# Altium integrated library TI Power Management Step-Up Regulator.IntLib: 226 symbols (part 5 of 11)
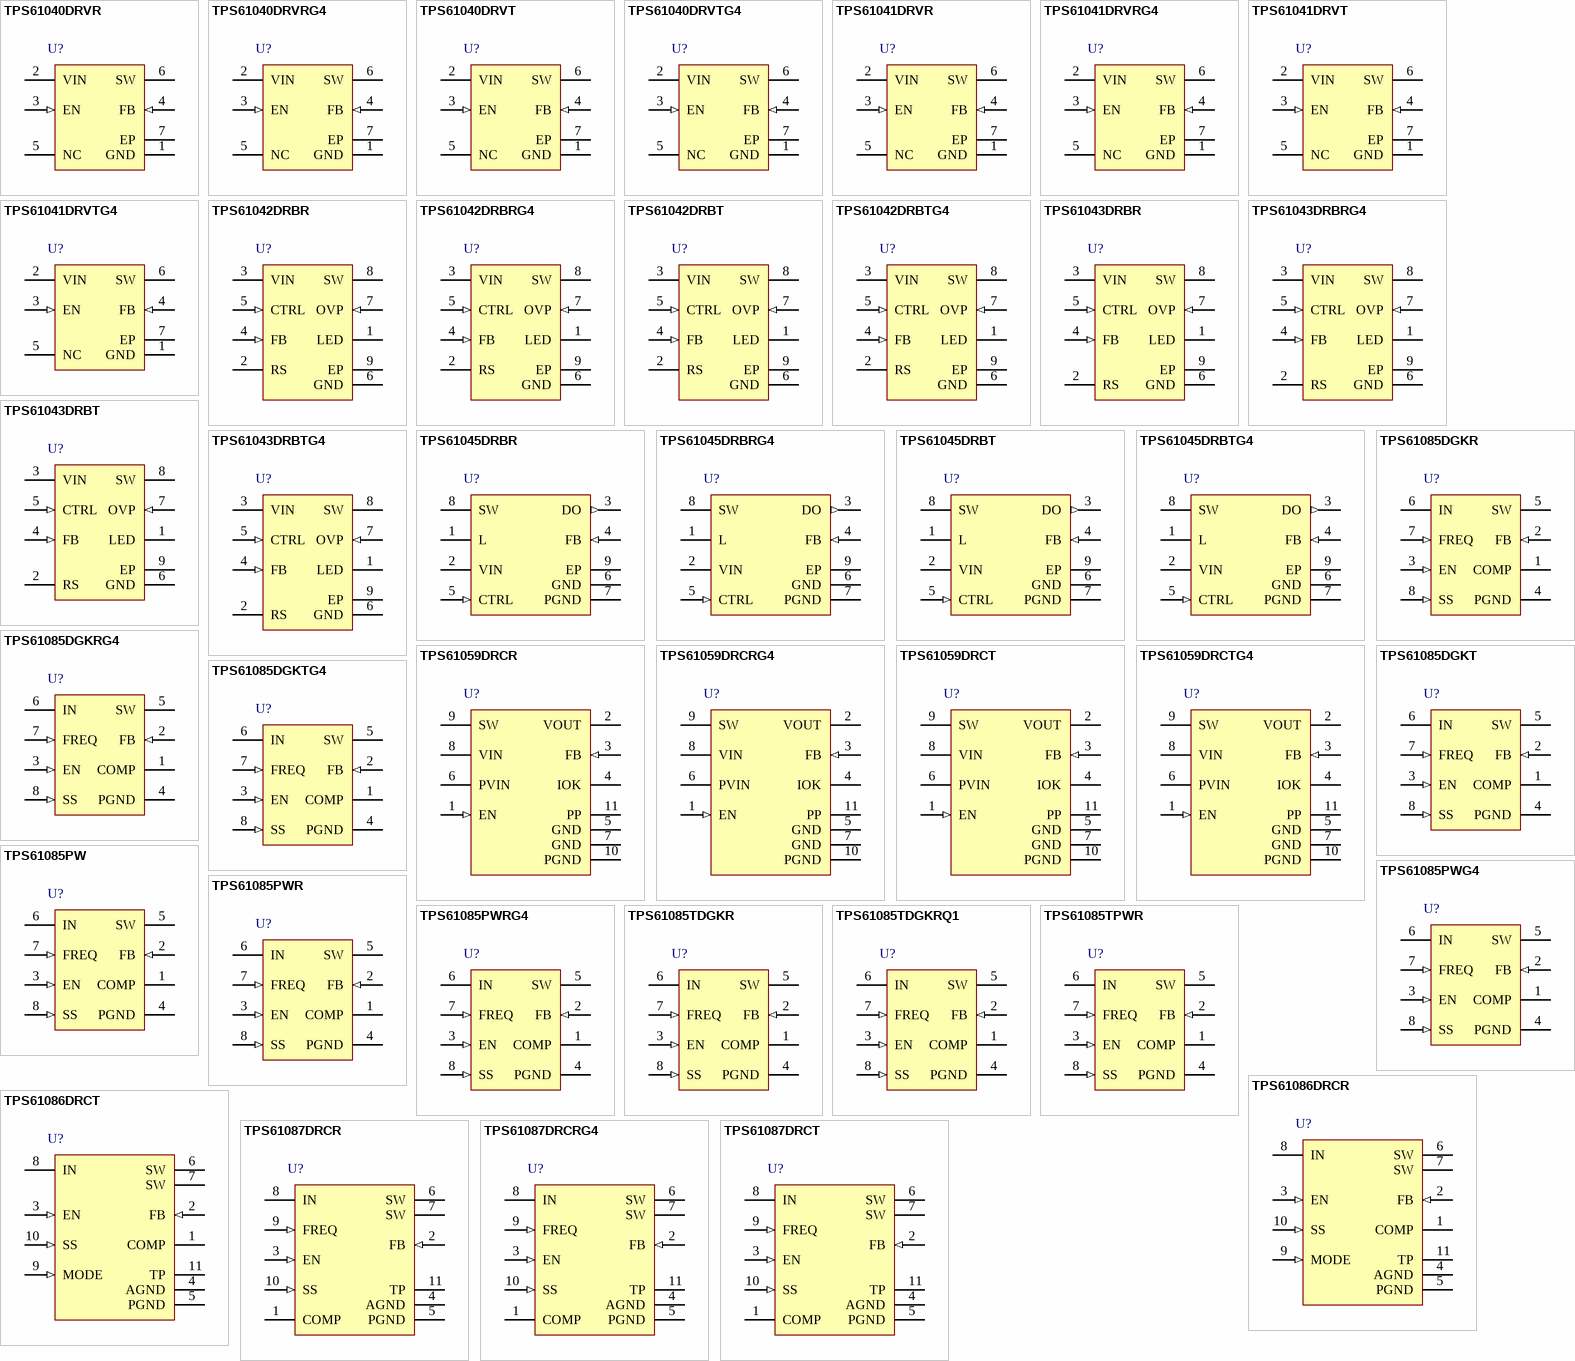
[diagram p10: symbols TPS61040DRVR to TPS61087DRCT]

## TPS61042DRBR
designator U?
Boost Voltage Converter with 1.8 to 6 V Input and 1.8 to 28 V Output, -40 to 85 degC, 8-Pin SON (DRB), Green (RoHS & no Sb/Br); Manufacturer: Texas Instruments; PartNumber: TPS61042DRBR; Regulated Outputs(#): 1; SubFamily: Step-Up Regulator; Switching Frequency(Max)(kHz): 1000; Vin(Max)(V): 6; Vin(Min)(V): 1.8; Vout(Max)(V): 28; DatasheetVersion: SLVS441C; PackageVersion: revI, Sep-2010; PackageReference: DRB8-1750X1500TP; PackageDescription: 8-Pin Plastic Small Outline No-Lead, 3 x 3 x 1 mm Body, 0.65 mm Pitch, Exposed Pad; Supplier 1: Digi-Key; Supplier Part Number 1: 296-14449-2-ND; Supplier 2: Digi-Key; Supplier Part Number 2: 296-14449-1-ND; Supplier 3: Digi-Key; Supplier Part Number 3: 296-14449-6-ND; Supplier 4: Newark; Supplier Part Number 4: 80K6166; Supplier 5: Mouser; Supplier Part Number 5: 595-TPS61042DRBR; Eco-Plan: Green (RoHS & no Sb/Br); Topology: Boost; Vout(Min)(V): 1.8; Mounting Technology: Surface Mount; ComponentLink1Description: Datasheet; ComponentLink1URL: http://www.ti.com/general/docs/lit/getliterature.tsp?genericPartNumber=TPS61042&fileType=pdf; ComponentLink2Description: Package Specification; ComponentLink2URL: http://www.ti.com/lit/ml/mpds118j/mpds118j.pdf
footprint DRB8-1750X1500TP (SON, 8-Leads, Body 3x3mm, Pitch 0.65mm, Thermal Pad 1.75x1.5mm, TI Recommended)
pins: 1 LED "Input of the LED switch (Q2). Connect the LEDs to this pin.", 2 RS "Output of the internal LED switch. The sense resistor that programs the LED current is connected to RS.", 3 VIN (power) "Input supply pin.", 4 FB (in) "Feedback. FB regulates the LED current through the sense resistor by regulating the voltage across RS to 252mV.", 5 CTRL (in) "Combined enable and PWM control pin. If CTRL is constantly pulled high, the device is enabled and the internal LED switch (Q2) is constantly turned on. When CTRL is pulled to GND, the device is disabled. Apply a PWM signal (See Datasheet)", 6 GND (power), 7 OVP (in) "Overvoltage protection. OVP is connected to the output capacitor of the converter", 8 SW (power) "Drain of the integrated switch (Q1)", 9 EP (power) "Exposed Thermal Pad"

## TPS61042DRBRG4
designator U?
Boost Voltage Converter with 1.8 to 6 V Input and 1.8 to 28 V Output, -40 to 85 degC, 8-Pin SON (DRB), Green (RoHS & no Sb/Br); Manufacturer: Texas Instruments; PartNumber: TPS61042DRBRG4; Regulated Outputs(#): 1; SubFamily: Step-Up Regulator; Switching Frequency(Max)(kHz): 1000; Vin(Max)(V): 6; Vin(Min)(V): 1.8; Vout(Max)(V): 28; DatasheetVersion: SLVS441C; PackageVersion: revI, Sep-2010; PackageReference: DRB8-1750X1500TP; PackageDescription: 8-Pin Plastic Small Outline No-Lead, 3 x 3 x 1 mm Body, 0.65 mm Pitch, Exposed Pad; Supplier 1: Digi-Key; Supplier Part Number 1: TPS61042DRBRG4-ND; Supplier 2: Farnell; Supplier Part Number 2: 1287686; Supplier 3: Newark; Supplier Part Number 3: 99K4411; Supplier 4: Mouser; Supplier Part Number 4: 595-TPS61042DRBRG4; Eco-Plan: Green (RoHS & no Sb/Br); Topology: Boost; Vout(Min)(V): 1.8; Mounting Technology: Surface Mount; ComponentLink1Description: Datasheet; ComponentLink1URL: http://www.ti.com/general/docs/lit/getliterature.tsp?genericPartNumber=TPS61042&fileType=pdf; ComponentLink2Description: Package Specification; ComponentLink2URL: http://www.ti.com/lit/ml/mpds118j/mpds118j.pdf
footprint DRB8-1750X1500TP (SON, 8-Leads, Body 3x3mm, Pitch 0.65mm, Thermal Pad 1.75x1.5mm, TI Recommended)
pins: 1 LED "Input of the LED switch (Q2). Connect the LEDs to this pin.", 2 RS "Output of the internal LED switch. The sense resistor that programs the LED current is connected to RS.", 3 VIN (power) "Input supply pin.", 4 FB (in) "Feedback. FB regulates the LED current through the sense resistor by regulating the voltage across RS to 252mV.", 5 CTRL (in) "Combined enable and PWM control pin. If CTRL is constantly pulled high, the device is enabled and the internal LED switch (Q2) is constantly turned on. When CTRL is pulled to GND, the device is disabled. Apply a PWM signal (See Datasheet)", 6 GND (power), 7 OVP (in) "Overvoltage protection. OVP is connected to the output capacitor of the converter", 8 SW (power) "Drain of the integrated switch (Q1)", 9 EP (power) "Exposed Thermal Pad"

## TPS61042DRBT
designator U?
Boost Voltage Converter with 1.8 to 6 V Input and 1.8 to 28 V Output, 8-Pin SON (DRB), Green (RoHS & no Sb/Br); Manufacturer: Texas Instruments; PartNumber: TPS61042DRBT; Regulated Outputs(#): 1; SubFamily: Step-Up Regulator; Switching Frequency(Max)(kHz): 1000; Vin(Max)(V): 6; Vin(Min)(V): 1.8; Vout(Max)(V): 28; DatasheetVersion: SLVS441C; PackageVersion: revI, Sep-2010; PackageReference: DRB8-1750X1500TP; PackageDescription: 8-Pin Plastic Small Outline No-Lead, 3 x 3 x 1 mm Body, 0.65 mm Pitch, Exposed Pad; Supplier 1: Digi-Key; Supplier Part Number 1: 296-27008-2-ND; Supplier 2: Digi-Key; Supplier Part Number 2: 296-27008-1-ND; Supplier 3: Digi-Key; Supplier Part Number 3: 296-27008-6-ND; Supplier 4: Newark; Supplier Part Number 4: 32H6569; Supplier 5: Mouser; Supplier Part Number 5: 595-TPS61042DRBT; Eco-Plan: Green (RoHS & no Sb/Br); Topology: Boost; Vout(Min)(V): 1.8; Mounting Technology: Surface Mount; ComponentLink1Description: Datasheet; ComponentLink1URL: http://www.ti.com/general/docs/lit/getliterature.tsp?genericPartNumber=TPS61042&fileType=pdf; ComponentLink2Description: Package Specification; ComponentLink2URL: http://www.ti.com/lit/ml/mpds118j/mpds118j.pdf
footprint DRB8-1750X1500TP (SON, 8-Leads, Body 3x3mm, Pitch 0.65mm, Thermal Pad 1.75x1.5mm, TI Recommended)
pins: 1 LED "Input of the LED switch (Q2). Connect the LEDs to this pin.", 2 RS "Output of the internal LED switch. The sense resistor that programs the LED current is connected to RS.", 3 VIN (power) "Input supply pin.", 4 FB (in) "Feedback. FB regulates the LED current through the sense resistor by regulating the voltage across RS to 252mV.", 5 CTRL (in) "Combined enable and PWM control pin. If CTRL is constantly pulled high, the device is enabled and the internal LED switch (Q2) is constantly turned on. When CTRL is pulled to GND, the device is disabled. Apply a PWM signal (See Datasheet)", 6 GND (power), 7 OVP (in) "Overvoltage protection. OVP is connected to the output capacitor of the converter", 8 SW (power) "Drain of the integrated switch (Q1)", 9 EP (power) "Exposed Thermal Pad"

## TPS61042DRBTG4
designator U?
Boost Voltage Converter with 1.8 to 6 V Input and 1.8 to 28 V Output, 8-Pin SON (DRB), Green (RoHS & no Sb/Br); Manufacturer: Texas Instruments; PartNumber: TPS61042DRBTG4; Regulated Outputs(#): 1; SubFamily: Step-Up Regulator; Switching Frequency(Max)(kHz): 1000; Vin(Max)(V): 6; Vin(Min)(V): 1.8; Vout(Max)(V): 28; DatasheetVersion: SLVS441C; PackageVersion: revI, Sep-2010; PackageReference: DRB8-1750X1500TP; PackageDescription: 8-Pin Plastic Small Outline No-Lead, 3 x 3 x 1 mm Body, 0.65 mm Pitch, Exposed Pad; Supplier 1: Digi-Key; Supplier Part Number 1: TPS61042DRBTG4-ND; Supplier 2: Newark; Supplier Part Number 2: 10M0632; Supplier 3: Mouser; Supplier Part Number 3: 595-TPS61042DRBTG4; Eco-Plan: Green (RoHS & no Sb/Br); Topology: Boost; Vout(Min)(V): 1.8; Mounting Technology: Surface Mount; ComponentLink1Description: Datasheet; ComponentLink1URL: http://www.ti.com/general/docs/lit/getliterature.tsp?genericPartNumber=TPS61042&fileType=pdf; ComponentLink2Description: Package Specification; ComponentLink2URL: http://www.ti.com/lit/ml/mpds118j/mpds118j.pdf
footprint DRB8-1750X1500TP (SON, 8-Leads, Body 3x3mm, Pitch 0.65mm, Thermal Pad 1.75x1.5mm, TI Recommended)
pins: 1 LED "Input of the LED switch (Q2). Connect the LEDs to this pin.", 2 RS "Output of the internal LED switch. The sense resistor that programs the LED current is connected to RS.", 3 VIN (power) "Input supply pin.", 4 FB (in) "Feedback. FB regulates the LED current through the sense resistor by regulating the voltage across RS to 252mV.", 5 CTRL (in) "Combined enable and PWM control pin. If CTRL is constantly pulled high, the device is enabled and the internal LED switch (Q2) is constantly turned on. When CTRL is pulled to GND, the device is disabled. Apply a PWM signal (See Datasheet)", 6 GND (power), 7 OVP (in) "Overvoltage protection. OVP is connected to the output capacitor of the converter", 8 SW (power) "Drain of the integrated switch (Q1)", 9 EP (power) "Exposed Thermal Pad"

## TPS61043DRBR
designator U?
Boost LED Driver with 1.8 to 6 V Input and 1.8 to 16.9 V Output, -40 to 85 degC, 8-Pin SON (DRB), Green (RoHS & no Sb/Br); Manufacturer: Texas Instruments; PartNumber: TPS61043DRBR; Regulated Outputs(#): 1; SubFamily: Step-Up Regulator; Switching Frequency(Max)(kHz): 1000; Vin(Max)(V): 6; Vin(Min)(V): 1.8; Vout(Max)(V): 16.9; DatasheetVersion: SLVS465A; PackageVersion: revI, Sep-2010; PackageReference: DRB8-1750X1500TP; PackageDescription: 8-Pin Plastic Small Outline No-Lead, 3 x 3 x 1 mm Body, 0.65 mm Pitch, Exposed Pad; Supplier 1: Digi-Key; Supplier Part Number 1: 296-16675-2-ND; Supplier 2: Digi-Key; Supplier Part Number 2: 296-16675-1-ND; Supplier 3: Digi-Key; Supplier Part Number 3: 296-16675-6-ND; Supplier 4: Newark; Supplier Part Number 4: 90H4862; Supplier 5: Mouser; Supplier Part Number 5: 595-TPS61043DRBR; Eco-Plan: Green (RoHS & no Sb/Br); Topology: Boost; Vout(Min)(V): 1.8; Mounting Technology: Surface Mount; ComponentLink1Description: Datasheet; ComponentLink1URL: http://www.ti.com/general/docs/lit/getliterature.tsp?genericPartNumber=TPS61043&fileType=pdf; ComponentLink2Description: Package Specification; ComponentLink2URL: http://www.ti.com/lit/ml/mpds118j/mpds118j.pdf
footprint DRB8-1750X1500TP (SON, 8-Leads, Body 3x3mm, Pitch 0.65mm, Thermal Pad 1.75x1.5mm, TI Recommended)
pins: 1 LED "Input of the LED switch (Q2). Connect the LEDs to this pin.", 2 RS "Output of the internal LED switch. The sense resistor that programs the LED current is connected to RS.", 3 VIN (power) "Input supply pin.", 4 FB (in) "Feedback. FB regulates the LED current through the sense resistor by regulating the voltage across RS to 252 mV.", 5 CTRL (in) "Combined enable and PWM control pin. If CTRL is constantly pulled high, the device is enabled and the internal LED switch (Q2) is constantly turned on. When CTRL is pulled to GND, the device is disabled. Apply a PWM signal (See Datasheet)", 6 GND (power), 7 OVP (in) "Overvoltage protection. OVP is connected to the output capacitor of the converter.", 8 SW (power) "Drain of the integrated switch (Q1)", 9 EP (power) "The exposed thermal die pad is connected to GND."

## TPS61043DRBRG4
designator U?
Boost LED Driver with 1.8 to 6 V Input and 1.8 to 16.9 V Output, -40 to 85 degC, 8-Pin SON (DRB), Green (RoHS & no Sb/Br); Manufacturer: Texas Instruments; PartNumber: TPS61043DRBRG4; Regulated Outputs(#): 1; SubFamily: Step-Up Regulator; Switching Frequency(Max)(kHz): 1000; Vin(Max)(V): 6; Vin(Min)(V): 1.8; Vout(Max)(V): 16.9; DatasheetVersion: SLVS465A; PackageVersion: revI, Sep-2010; PackageReference: DRB8-1750X1500TP; PackageDescription: 8-Pin Plastic Small Outline No-Lead, 3 x 3 x 1 mm Body, 0.65 mm Pitch, Exposed Pad; Supplier 1: Digi-Key; Supplier Part Number 1: TPS61043DRBRG4-ND; Supplier 2: Newark; Supplier Part Number 2: 24K6023; Supplier 3: Mouser; Supplier Part Number 3: 595-TPS61043DRBRG4; Eco-Plan: Green (RoHS & no Sb/Br); Topology: Boost; Vout(Min)(V): 1.8; Mounting Technology: Surface Mount; ComponentLink1Description: Datasheet; ComponentLink1URL: http://www.ti.com/general/docs/lit/getliterature.tsp?genericPartNumber=TPS61043&fileType=pdf; ComponentLink2Description: Package Specification; ComponentLink2URL: http://www.ti.com/lit/ml/mpds118j/mpds118j.pdf
footprint DRB8-1750X1500TP (SON, 8-Leads, Body 3x3mm, Pitch 0.65mm, Thermal Pad 1.75x1.5mm, TI Recommended)
pins: 1 LED "Input of the LED switch (Q2). Connect the LEDs to this pin.", 2 RS "Output of the internal LED switch. The sense resistor that programs the LED current is connected to RS.", 3 VIN (power) "Input supply pin.", 4 FB (in) "Feedback. FB regulates the LED current through the sense resistor by regulating the voltage across RS to 252 mV.", 5 CTRL (in) "Combined enable and PWM control pin. If CTRL is constantly pulled high, the device is enabled and the internal LED switch (Q2) is constantly turned on. When CTRL is pulled to GND, the device is disabled. Apply a PWM signal (See Datasheet)", 6 GND (power), 7 OVP (in) "Overvoltage protection. OVP is connected to the output capacitor of the converter.", 8 SW (power) "Drain of the integrated switch (Q1)", 9 EP (power) "The exposed thermal die pad is connected to GND."

## TPS61043DRBT
designator U?
Boost LED Driver with 1.8 to 6 V Input and 1.8 to 16.9 V Output, -40 to 85 degC, 8-Pin SON (DRB), Green (RoHS & no Sb/Br); Manufacturer: Texas Instruments; PartNumber: TPS61043DRBT; Regulated Outputs(#): 1; SubFamily: Step-Up Regulator; Switching Frequency(Max)(kHz): 1000; Vin(Max)(V): 6; Vin(Min)(V): 1.8; Vout(Max)(V): 16.9; DatasheetVersion: SLVS465A; PackageVersion: revI, Sep-2010; PackageReference: DRB8-1750X1500TP; PackageDescription: 8-Pin Plastic Small Outline No-Lead, 3 x 3 x 1 mm Body, 0.65 mm Pitch, Exposed Pad; Supplier 1: Digi-Key; Supplier Part Number 1: 296-27009-2-ND; Supplier 2: Digi-Key; Supplier Part Number 2: 296-27009-1-ND; Supplier 3: Digi-Key; Supplier Part Number 3: 296-27009-6-ND; Supplier 4: Newark; Supplier Part Number 4: 90H4863; Supplier 5: Mouser; Supplier Part Number 5: 595-TPS61043DRBT; Eco-Plan: Green (RoHS & no Sb/Br); Topology: Boost; Vout(Min)(V): 1.8; Mounting Technology: Surface Mount; ComponentLink1Description: Datasheet; ComponentLink1URL: http://www.ti.com/general/docs/lit/getliterature.tsp?genericPartNumber=TPS61043&fileType=pdf; ComponentLink2Description: Package Specification; ComponentLink2URL: http://www.ti.com/lit/ml/mpds118j/mpds118j.pdf
footprint DRB8-1750X1500TP (SON, 8-Leads, Body 3x3mm, Pitch 0.65mm, Thermal Pad 1.75x1.5mm, TI Recommended)
pins: 1 LED "Input of the LED switch (Q2). Connect the LEDs to this pin.", 2 RS "Output of the internal LED switch. The sense resistor that programs the LED current is connected to RS.", 3 VIN (power) "Input supply pin.", 4 FB (in) "Feedback. FB regulates the LED current through the sense resistor by regulating the voltage across RS to 252 mV.", 5 CTRL (in) "Combined enable and PWM control pin. If CTRL is constantly pulled high, the device is enabled and the internal LED switch (Q2) is constantly turned on. When CTRL is pulled to GND, the device is disabled. Apply a PWM signal (See Datasheet)", 6 GND (power), 7 OVP (in) "Overvoltage protection. OVP is connected to the output capacitor of the converter.", 8 SW (power) "Drain of the integrated switch (Q1)", 9 EP (power) "The exposed thermal die pad is connected to GND."

## TPS61043DRBTG4
designator U?
Boost LED Driver with 1.8 to 6 V Input and 1.8 to 16.9 V Output, -40 to 85 degC, 8-Pin SON (DRB), Green (RoHS & no Sb/Br); Manufacturer: Texas Instruments; PartNumber: TPS61043DRBTG4; Regulated Outputs(#): 1; SubFamily: Step-Up Regulator; Switching Frequency(Max)(kHz): 1000; Vin(Max)(V): 6; Vin(Min)(V): 1.8; Vout(Max)(V): 16.9; DatasheetVersion: SLVS465A; PackageVersion: revI, Sep-2010; PackageReference: DRB8-1750X1500TP; PackageDescription: 8-Pin Plastic Small Outline No-Lead, 3 x 3 x 1 mm Body, 0.65 mm Pitch, Exposed Pad; Supplier 1: Digi-Key; Supplier Part Number 1: TPS61043DRBTG4-ND; Supplier 2: Newark; Supplier Part Number 2: 52M6121; Supplier 3: Mouser; Supplier Part Number 3: 595-TPS61043DRBTG4; Eco-Plan: Green (RoHS & no Sb/Br); Topology: Boost; Vout(Min)(V): 1.8; Mounting Technology: Surface Mount; ComponentLink1Description: Datasheet; ComponentLink1URL: http://www.ti.com/general/docs/lit/getliterature.tsp?genericPartNumber=TPS61043&fileType=pdf; ComponentLink2Description: Package Specification; ComponentLink2URL: http://www.ti.com/lit/ml/mpds118j/mpds118j.pdf
footprint DRB8-1750X1500TP (SON, 8-Leads, Body 3x3mm, Pitch 0.65mm, Thermal Pad 1.75x1.5mm, TI Recommended)
pins: 1 LED "Input of the LED switch (Q2). Connect the LEDs to this pin.", 2 RS "Output of the internal LED switch. The sense resistor that programs the LED current is connected to RS.", 3 VIN (power) "Input supply pin.", 4 FB (in) "Feedback. FB regulates the LED current through the sense resistor by regulating the voltage across RS to 252 mV.", 5 CTRL (in) "Combined enable and PWM control pin. If CTRL is constantly pulled high, the device is enabled and the internal LED switch (Q2) is constantly turned on. When CTRL is pulled to GND, the device is disabled. Apply a PWM signal (See Datasheet)", 6 GND (power), 7 OVP (in) "Overvoltage protection. OVP is connected to the output capacitor of the converter.", 8 SW (power) "Drain of the integrated switch (Q1)", 9 EP (power) "The exposed thermal die pad is connected to GND."

## TPS61045DRBR
designator U?
Boost Voltage Converter with 1.8 to 6 V Input and 1.8 to 28 V Output, -40 to 85 degC, 8-Pin SON (DRB), Green (RoHS & no Sb/Br); Manufacturer: Texas Instruments; PartNumber: TPS61045DRBR; Regulated Outputs(#): 1; SubFamily: Step-Up Regulator; Switching Frequency(Max)(kHz): 1000; Vin(Max)(V): 6; Vin(Min)(V): 1.8; Vout(Max)(V): 28; DatasheetVersion: SLVS440B; PackageVersion: revI, Sep-2010; PackageReference: DRB8-1750X1500TP; PackageDescription: 8-Pin Plastic Small Outline No-Lead, 3 x 3 x 1 mm Body, 0.65 mm Pitch, Exposed Pad; Supplier 1: Digi-Key; Supplier Part Number 1: 296-14419-2-ND; Supplier 2: Digi-Key; Supplier Part Number 2: 296-14419-1-ND; Supplier 3: Digi-Key; Supplier Part Number 3: 296-14419-6-ND; Supplier 4: Newark; Supplier Part Number 4: 32H6571; Supplier 5: Mouser; Supplier Part Number 5: 595-TPS61045DRBR; Eco-Plan: Green (RoHS & no Sb/Br); Topology: Boost; Vout(Min)(V): 1.8; Mounting Technology: Surface Mount; ComponentLink1Description: Datasheet; ComponentLink1URL: http://www.ti.com/general/docs/lit/getliterature.tsp?genericPartNumber=TPS61045&fileType=pdf; ComponentLink2Description: Package Specification; ComponentLink2URL: http://www.ti.com/lit/ml/mpds118j/mpds118j.pdf
footprint DRB8-1750X1500TP (SON, 8-Leads, Body 3x3mm, Pitch 0.65mm, Thermal Pad 1.75x1.5mm, TI Recommended)
pins: 1 L (power) "Drain of the internal input switch (Q1). Connect L to the inductor.", 2 VIN (power) "Input supply pin", 3 DO (out) "Internal DAC output. DO programs the output voltage via the CTRL pin. Refer to the application information section for further information.", 4 FB (in) "Feedback. FB must be connected to the output voltage-feedback divider.", 5 CTRL (in) "Combined enable and digital output voltage programming pin. Pulling CTRL constantly high enables the device. When CTRL is pulled to GND, the device is disabled and the input is disconnected from the output by opening the (See Datasheet)", 6 GND (power) "Analog ground. GND must be directly connected to the PGND pin. Refer to the application information section for further information.", 7 PGND (power) "Power ground", 8 SW (power) "Drain of the integrated main switch Q2. SW is connected to the inductor and anode of the Schottky rectifier diode.", 9 EP (power) "Exposed thermal pad"

## TPS61045DRBRG4
designator U?
Boost Adjustable Converter with 1.8 to 6 V Input and 1.8 to 28 V Output, -40 to 85 degC, 8-Pin SON (DRB), Green (RoHS & no Sb/Br); Manufacturer: Texas Instruments; PartNumber: TPS61045DRBRG4; Regulated Outputs(#): 1; SubFamily: Step-Up Regulator; Switching Frequency(Max)(kHz): 1000; Vin(Max)(V): 6; Vin(Min)(V): 1.8; Vout(Max)(V): 28; DatasheetVersion: SLVS440B; PackageVersion: revI, Sep-2010; PackageReference: DRB8-1750X1500TP; PackageDescription: 8-Pin Plastic Small Outline No-Lead, 3 x 3 x 1 mm Body, 0.65 mm Pitch, Exposed Pad; Supplier 1: Digi-Key; Supplier Part Number 1: TPS61045DRBRG4-ND; Supplier 2: Newark; Supplier Part Number 2: 52K5942; Supplier 3: Mouser; Supplier Part Number 3: 595-TPS61045DRBRG4; Eco-Plan: Green (RoHS & no Sb/Br); Topology: Boost; Vout(Min)(V): 1.8; Mounting Technology: Surface Mount; ComponentLink1Description: Datasheet; ComponentLink1URL: http://www.ti.com/general/docs/lit/getliterature.tsp?genericPartNumber=TPS61045&fileType=pdf; ComponentLink2Description: Package Specification; ComponentLink2URL: http://www.ti.com/lit/ml/mpds118j/mpds118j.pdf
footprint DRB8-1750X1500TP (SON, 8-Leads, Body 3x3mm, Pitch 0.65mm, Thermal Pad 1.75x1.5mm, TI Recommended)
pins: 1 L (power) "Drain of the internal input switch (Q1). Connect L to the inductor.", 2 VIN (power) "Input supply pin", 3 DO (out) "Internal DAC output. DO programs the output voltage via the CTRL pin. Refer to the application information section for further information.", 4 FB (in) "Feedback. FB must be connected to the output voltage-feedback divider.", 5 CTRL (in) "Combined enable and digital output voltage programming pin. Pulling CTRL constantly high enables the device. When CTRL is pulled to GND, the device is disabled and the input is disconnected from the output by opening the (See Datasheet)", 6 GND (power) "Analog ground. GND must be directly connected to the PGND pin. Refer to the application information section for further information.", 7 PGND (power) "Power ground", 8 SW (power) "Drain of the integrated main switch Q2. SW is connected to the inductor and anode of the Schottky rectifier diode.", 9 EP (power) "Exposed thermal pad"

## TPS61045DRBT
designator U?
Boost Adjustable Converter with 1.8 to 6 V Input and 1.8 to 28 V Output, -40 to 85 degC, 8-Pin SON (DRB), Green (RoHS & no Sb/Br); Manufacturer: Texas Instruments; PartNumber: TPS61045DRBT; Regulated Outputs(#): 1; SubFamily: Step-Up Regulator; Switching Frequency(Max)(kHz): 1000; Vin(Max)(V): 6; Vin(Min)(V): 1.8; Vout(Max)(V): 28; DatasheetVersion: SLVS440B; PackageVersion: revI, Sep-2010; PackageReference: DRB8-1750X1500TP; PackageDescription: 8-Pin Plastic Small Outline No-Lead, 3 x 3 x 1 mm Body, 0.65 mm Pitch, Exposed Pad; Supplier 1: Digi-Key; Supplier Part Number 1: 296-32499-2-ND; Supplier 2: Digi-Key; Supplier Part Number 2: 296-32499-1-ND; Supplier 3: Digi-Key; Supplier Part Number 3: 296-32499-6-ND; Supplier 4: Newark; Supplier Part Number 4: 32H6572; Supplier 5: Mouser; Supplier Part Number 5: 595-TPS61045DRBT; Eco-Plan: Green (RoHS & no Sb/Br); Topology: Boost; Vout(Min)(V): 1.8; Mounting Technology: Surface Mount; ComponentLink1Description: Datasheet; ComponentLink1URL: http://www.ti.com/general/docs/lit/getliterature.tsp?genericPartNumber=TPS61045&fileType=pdf; ComponentLink2Description: Package Specification; ComponentLink2URL: http://www.ti.com/lit/ml/mpds118j/mpds118j.pdf
footprint DRB8-1750X1500TP (SON, 8-Leads, Body 3x3mm, Pitch 0.65mm, Thermal Pad 1.75x1.5mm, TI Recommended)
pins: 1 L (power) "Drain of the internal input switch (Q1). Connect L to the inductor.", 2 VIN (power) "Input supply pin", 3 DO (out) "Internal DAC output. DO programs the output voltage via the CTRL pin. Refer to the application information section for further information.", 4 FB (in) "Feedback. FB must be connected to the output voltage-feedback divider.", 5 CTRL (in) "Combined enable and digital output voltage programming pin. Pulling CTRL constantly high enables the device. When CTRL is pulled to GND, the device is disabled and the input is disconnected from the output by opening the (See Datasheet)", 6 GND (power) "Analog ground. GND must be directly connected to the PGND pin. Refer to the application information section for further information.", 7 PGND (power) "Power ground", 8 SW (power) "Drain of the integrated main switch Q2. SW is connected to the inductor and anode of the Schottky rectifier diode.", 9 EP (power) "Exposed thermal pad"

## TPS61045DRBTG4
designator U?
Boost Adjustable Converter with 1.8 to 6 V Input and 1.8 to 28 V Output, -40 to 85 degC, 8-Pin SON (DRB), Green (RoHS & no Sb/Br); Manufacturer: Texas Instruments; PartNumber: TPS61045DRBTG4; Regulated Outputs(#): 1; SubFamily: Step-Up Regulator; Switching Frequency(Max)(kHz): 1000; Vin(Max)(V): 6; Vin(Min)(V): 1.8; Vout(Max)(V): 28; DatasheetVersion: SLVS440B; PackageVersion: revI, Sep-2010; PackageReference: DRB8-1750X1500TP; PackageDescription: 8-Pin Plastic Small Outline No-Lead, 3 x 3 x 1 mm Body, 0.65 mm Pitch, Exposed Pad; Supplier 1: Digi-Key; Supplier Part Number 1: TPS61045DRBTG4-ND; Supplier 2: Farnell; Supplier Part Number 2: 1226311; Supplier 3: Newark; Supplier Part Number 3: 85K1704; Supplier 4: Mouser; Supplier Part Number 4: 595-TPS61045DRBTG4; Eco-Plan: Green (RoHS & no Sb/Br); Topology: Boost; Vout(Min)(V): 1.8; Mounting Technology: Surface Mount; ComponentLink1Description: Datasheet; ComponentLink1URL: http://www.ti.com/general/docs/lit/getliterature.tsp?genericPartNumber=TPS61045&fileType=pdf; ComponentLink2Description: Package Specification; ComponentLink2URL: http://www.ti.com/lit/ml/mpds118j/mpds118j.pdf
footprint DRB8-1750X1500TP (SON, 8-Leads, Body 3x3mm, Pitch 0.65mm, Thermal Pad 1.75x1.5mm, TI Recommended)
pins: 1 L (power) "Drain of the internal input switch (Q1). Connect L to the inductor.", 2 VIN (power) "Input supply pin", 3 DO (out) "Internal DAC output. DO programs the output voltage via the CTRL pin. Refer to the application information section for further information.", 4 FB (in) "Feedback. FB must be connected to the output voltage-feedback divider.", 5 CTRL (in) "Combined enable and digital output voltage programming pin. Pulling CTRL constantly high enables the device. When CTRL is pulled to GND, the device is disabled and the input is disconnected from the output by opening the (See Datasheet)", 6 GND (power) "Analog ground. GND must be directly connected to the PGND pin. Refer to the application information section for further information.", 7 PGND (power) "Power ground", 8 SW (power) "Drain of the integrated main switch Q2. SW is connected to the inductor and anode of the Schottky rectifier diode.", 9 EP (power) "Exposed thermal pad"

## TPS61059DRCR
designator U?
Boost LED Driver with 2.7 to 5.5 V Input and 2.5 to 5.5 V Output, -40 to 85 degC, 10-Pin SON (DRC); Manufacturer: Texas Instruments; PartNumber: TPS61059DRCR; Eco-Plan: Green (RoHS & no Sb/Br); Regulated Outputs(#): 1; SubFamily: Step-Up Regulator; Switching Frequency(Max)(kHz): 650; Synchronous Rectification: TRUE; Vin(Max)(V): 5.5; Vin(Min)(V): 2.7; Vout(Min)(V): 2.5; DatasheetVersion: SLVS572B; PackageVersion: revL, Sep-2011; PackageReference: DRC10-2400X1650TP; PackageDescription: 10-Pin Plastic Small Outline No-Lead, 3 x 3 x 1 mm Body, 0.5 mm Pitch, Exposed Pad; Supplier 1: Digi-Key; Supplier Part Number 1: TPS61059DRCR-ND; Supplier 2: Mouser; Supplier Part Number 2: 595-TPS61059DRCR; Topology: Boost; Vout(Max)(V): 5.5; Mounting Technology: Surface Mount; ComponentLink1Description: Datasheet; ComponentLink1URL: http://www.ti.com/general/docs/lit/getliterature.tsp?genericPartNumber=TPS61059&fileType=pdf; ComponentLink2Description: Package Specification; ComponentLink2URL: http://www.ti.com/litv/pdf/mpds117k
footprint DRC10-2400X1650TP (SON, 10-Leads, Body 3x3mm, Pitch 0.5mm, Thermal Pad 2.4x1.65mm, TI Recommended)
pins: 1 EN (in) "This is the enable pin of the device. Connect this pin to ground forces the device into shutdown mode. Pulling this pin above 1.4V enables the device. This pin has an internal pull-down resistor", 2 VOUT (power) "This is the output of the dc-dc converter.", 3 FB (in) "This is the feedback pin of the device. The feedback pin measures the LED current through the sense resistor. The feedback voltage is set internally to 500mV", 4 IOK (hiz) "This pin indicates that the dc-dc converter is ready for high current operation (open drain output).", 5 GND (power) "Control / logic ground.", 6 PVIN (power) "This is the input voltage pin of the device. Connect directly to the input bypass capacitor", 7 GND (power) "Control / logic ground.", 8 VIN (power) "This pin needs to be tied to the input voltage pin of the device.", 9 SW (power) "This is the switching pin of the converter.", 10 PGND (power) "Power ground.", 11 PP (power) "Must be soldered to achieve appropriate power dissipation. Should be connected to PGND."

## TPS61059DRCRG4
designator U?
Boost LED Driver with 2.7 to 5.5 V Input and 2.5 to 5.5 V Output, -40 to 85 degC, 10-Pin SON (DRC); Manufacturer: Texas Instruments; PartNumber: TPS61059DRCRG4; Eco-Plan: Green (RoHS & no Sb/Br); Regulated Outputs(#): 1; SubFamily: Step-Up Regulator; Switching Frequency(Max)(kHz): 650; Synchronous Rectification: TRUE; Vin(Max)(V): 5.5; Vin(Min)(V): 2.7; Vout(Min)(V): 2.5; DatasheetVersion: SLVS572B; PackageVersion: revL, Sep-2011; PackageReference: DRC10-2400X1650TP; PackageDescription: 10-Pin Plastic Small Outline No-Lead, 3 x 3 x 1 mm Body, 0.5 mm Pitch, Exposed Pad; Supplier 1: Digi-Key; Supplier Part Number 1: TPS61059DRCRG4-ND; Supplier 2: Mouser; Supplier Part Number 2: 595-TPS61059DRCRG4; Topology: Boost; Vout(Max)(V): 5.5; Mounting Technology: Surface Mount; ComponentLink1Description: Datasheet; ComponentLink1URL: http://www.ti.com/general/docs/lit/getliterature.tsp?genericPartNumber=TPS61059&fileType=pdf; ComponentLink2Description: Package Specification; ComponentLink2URL: http://www.ti.com/litv/pdf/mpds117k
footprint DRC10-2400X1650TP (SON, 10-Leads, Body 3x3mm, Pitch 0.5mm, Thermal Pad 2.4x1.65mm, TI Recommended)
pins: 1 EN (in) "This is the enable pin of the device. Connect this pin to ground forces the device into shutdown mode. Pulling this pin above 1.4V enables the device. This pin has an internal pull-down resistor", 2 VOUT (power) "This is the output of the dc-dc converter.", 3 FB (in) "This is the feedback pin of the device. The feedback pin measures the LED current through the sense resistor. The feedback voltage is set internally to 500mV", 4 IOK (hiz) "This pin indicates that the dc-dc converter is ready for high current operation (open drain output).", 5 GND (power) "Control / logic ground.", 6 PVIN (power) "This is the input voltage pin of the device. Connect directly to the input bypass capacitor", 7 GND (power) "Control / logic ground.", 8 VIN (power) "This pin needs to be tied to the input voltage pin of the device.", 9 SW (power) "This is the switching pin of the converter.", 10 PGND (power) "Power ground.", 11 PP (power) "Must be soldered to achieve appropriate power dissipation. Should be connected to PGND."

## TPS61059DRCT
designator U?
Boost LED Driver with 2.7 to 5.5 V Input and 2.5 to 5.5 V Output, -40 to 85 degC, 10-Pin SON (DRC), Green (RoHS & no Sb/Br); Manufacturer: Texas Instruments; PartNumber: TPS61059DRCT; Regulated Outputs(#): 1; SubFamily: Step-Up Regulator; Switching Frequency(Max)(kHz): 650; Synchronous Rectification: TRUE; Vin(Max)(V): 5.5; Vin(Min)(V): 2.7; Vout(Min)(V): 2.5; DatasheetVersion: SLVS572B; PackageVersion: revL, Sep-2011; PackageReference: DRC10-2400X1650TP; PackageDescription: 10-Pin Plastic Small Outline No-Lead, 3 x 3 x 1 mm Body, 0.5 mm Pitch, Exposed Pad; Supplier 1: Digi-Key; Supplier Part Number 1: 296-19426-2-ND; Supplier 2: Digi-Key; Supplier Part Number 2: 296-19426-1-ND; Supplier 3: Digi-Key; Supplier Part Number 3: 296-19426-6-ND; Supplier 4: Newark; Supplier Part Number 4: 99R8634; Supplier 5: Newark; Supplier Part Number 5: 72K0974; Supplier 6: Mouser; Supplier Part Number 6: 595-TPS61059DRCT; Eco-Plan: Green (RoHS & no Sb/Br); Topology: Boost; Vout(Max)(V): 5.5; Mounting Technology: Surface Mount; ComponentLink1Description: Datasheet; ComponentLink1URL: http://www.ti.com/general/docs/lit/getliterature.tsp?genericPartNumber=TPS61059&fileType=pdf; ComponentLink2Description: Package Specification; ComponentLink2URL: http://www.ti.com/litv/pdf/mpds117k
footprint DRC10-2400X1650TP (SON, 10-Leads, Body 3x3mm, Pitch 0.5mm, Thermal Pad 2.4x1.65mm, TI Recommended)
pins: 1 EN (in) "This is the enable pin of the device. Connect this pin to ground forces the device into shutdown mode. Pulling this pin above 1.4V enables the device. This pin has an internal pull-down resistor", 2 VOUT (power) "This is the output of the dc-dc converter.", 3 FB (in) "This is the feedback pin of the device. The feedback pin measures the LED current through the sense resistor. The feedback voltage is set internally to 500mV", 4 IOK (hiz) "This pin indicates that the dc-dc converter is ready for high current operation (open drain output).", 5 GND (power) "Control / logic ground.", 6 PVIN (power) "This is the input voltage pin of the device. Connect directly to the input bypass capacitor", 7 GND (power) "Control / logic ground.", 8 VIN (power) "This pin needs to be tied to the input voltage pin of the device.", 9 SW (power) "This is the switching pin of the converter.", 10 PGND (power) "Power ground.", 11 PP (power) "Must be soldered to achieve appropriate power dissipation. Should be connected to PGND."

## TPS61059DRCTG4
designator U?
Boost LED Driver with 2.7 to 5.5 V Input and 2.5 to 5.5 V Output, -40 to 85 degC, 10-Pin SON (DRC), Green (RoHS & no Sb/Br); Manufacturer: Texas Instruments; PartNumber: TPS61059DRCTG4; Regulated Outputs(#): 1; SubFamily: Step-Up Regulator; Switching Frequency(Max)(kHz): 650; Synchronous Rectification: TRUE; Vin(Max)(V): 5.5; Vin(Min)(V): 2.7; Vout(Min)(V): 2.5; DatasheetVersion: SLVS572B; PackageVersion: revL, Sep-2011; PackageReference: DRC10-2400X1650TP; PackageDescription: 10-Pin Plastic Small Outline No-Lead, 3 x 3 x 1 mm Body, 0.5 mm Pitch, Exposed Pad; Supplier 1: Digi-Key; Supplier Part Number 1: TPS61059DRCTG4-ND; Supplier 2: Newark; Supplier Part Number 2: 73K9607; Supplier 3: Mouser; Supplier Part Number 3: 595-TPS61059DRCTG4; Eco-Plan: Green (RoHS & no Sb/Br); Topology: Boost; Vout(Max)(V): 5.5; Mounting Technology: Surface Mount; ComponentLink1Description: Datasheet; ComponentLink1URL: http://www.ti.com/general/docs/lit/getliterature.tsp?genericPartNumber=TPS61059&fileType=pdf; ComponentLink2Description: Package Specification; ComponentLink2URL: http://www.ti.com/litv/pdf/mpds117k
footprint DRC10-2400X1650TP (SON, 10-Leads, Body 3x3mm, Pitch 0.5mm, Thermal Pad 2.4x1.65mm, TI Recommended)
pins: 1 EN (in) "This is the enable pin of the device. Connect this pin to ground forces the device into shutdown mode. Pulling this pin above 1.4V enables the device. This pin has an internal pull-down resistor", 2 VOUT (power) "This is the output of the dc-dc converter.", 3 FB (in) "This is the feedback pin of the device. The feedback pin measures the LED current through the sense resistor. The feedback voltage is set internally to 500mV", 4 IOK (hiz) "This pin indicates that the dc-dc converter is ready for high current operation (open drain output).", 5 GND (power) "Control / logic ground.", 6 PVIN (power) "This is the input voltage pin of the device. Connect directly to the input bypass capacitor", 7 GND (power) "Control / logic ground.", 8 VIN (power) "This pin needs to be tied to the input voltage pin of the device.", 9 SW (power) "This is the switching pin of the converter.", 10 PGND (power) "Power ground.", 11 PP (power) "Must be soldered to achieve appropriate power dissipation. Should be connected to PGND."

## TPS61085DGKR
designator U?
Boost Adjustable Converter with 2.3 to 6 V Input and 2.8 to 18.5 V Output, -40 to 85 degC, 8-Pin VSSOP (DGK), Green (RoHS & no Sb/Br); Manufacturer: Texas Instruments; PartNumber: TPS61085DGKR; Regulated Outputs(#): 1; SubFamily: Step-Up Regulator; Switching Frequency(Typ)(kHz): 650, 1200; Vin(Max)(V): 6; Vin(Min)(V): 2.3; Vout(Max)(V): 18.5; Vout(Min)(V): 2.8; DatasheetVersion: SLVS859A; PackageVersion: revE, May-2006; PackageReference: DGK8; PackageDescription: 8-Pin Thin Small Outline Package 3 x 3 mm Body ,0.65 mm Pitch; Supplier 1: Digi-Key; Supplier Part Number 1: TPS61085DGKR-ND; Supplier 2: Mouser; Supplier Part Number 2: 595-TPS61085DGKR; Eco-Plan: Green (RoHS & no Sb/Br); Topology: Boost; Mounting Technology: Surface Mount; Code_JEDEC: MO-187-AA; ComponentLink1Description: Datasheet; ComponentLink1URL: http://www.ti.com/general/docs/lit/getliterature.tsp?genericPartNumber=TPS61085&fileType=pdf; ComponentLink2Description: Package Specification; ComponentLink2URL: http://www.ti.com/lit/ml/mpds028d/mpds028d.pdf
footprint DGK8_N (TSOP, 8-Leads, Body 3x3mm, Pitch 0.65mm, IPC Medium Density)
footprint DGK8_L (TSOP, 8-Leads, Body 3x3mm, Pitch 0.65mm, IPC High Density)
footprint DGK8_M (TSOP, 8-Leads, Body 3x3mm, Pitch 0.65mm, IPC Low Density)
pins: 1 COMP "Compensation pin", 2 FB (in) "Feedback pin", 3 EN (in) "Shutdown control input. Connect this pin to logic high level to enable the device", 4 PGND (power) "Power ground", 5 SW (power) "Switch pin", 6 IN (power) "Input supply pin", 7 FREQ (in) "Frequency select pin. The power switch operates at 650 kHz if FREQ is connected to GND and at 1.2 MHz if FREQ is connected to IN", 8 SS (in) "Soft-start control pin. Connect a capacitor to this pin if soft-start needed. Open = no soft-start"

## TPS61085DGKRG4
designator U?
Boost Voltage Converter with 2.3 to 6 V Input and 2.8 to 18.5 V Output, -40 to 85 degC, 8-Pin VSSOP (DGK), Green (RoHS & no Sb/Br); Manufacturer: Texas Instruments; PartNumber: TPS61085DGKRG4; Regulated Outputs(#): 1; SubFamily: Step-Up Regulator; Switching Frequency(Typ)(kHz): 650, 1200; Vin(Max)(V): 6; Vin(Min)(V): 2.3; Vout(Max)(V): 18.5; Vout(Min)(V): 2.8; DatasheetVersion: SLVS859A; PackageVersion: revE, May-2006; PackageReference: DGK8; PackageDescription: 8-Pin Thin Small Outline Package 3 x 3 mm Body ,0.65 mm Pitch; Supplier 1: Digi-Key; Supplier Part Number 1: TPS61085DGKRG4-ND; Supplier 2: Mouser; Supplier Part Number 2: 595-TPS61085DGKRG4; Eco-Plan: Green (RoHS & no Sb/Br); Topology: Boost; Mounting Technology: Surface Mount; Code_JEDEC: MO-187-AA; ComponentLink1Description: Datasheet; ComponentLink1URL: http://www.ti.com/general/docs/lit/getliterature.tsp?genericPartNumber=TPS61085&fileType=pdf; ComponentLink2Description: Package Specification; ComponentLink2URL: http://www.ti.com/lit/ml/mpds028d/mpds028d.pdf
footprint DGK8_N (TSOP, 8-Leads, Body 3x3mm, Pitch 0.65mm, IPC Medium Density)
footprint DGK8_L (TSOP, 8-Leads, Body 3x3mm, Pitch 0.65mm, IPC High Density)
footprint DGK8_M (TSOP, 8-Leads, Body 3x3mm, Pitch 0.65mm, IPC Low Density)
pins: 1 COMP "Compensation pin", 2 FB (in) "Feedback pin", 3 EN (in) "Shutdown control input. Connect this pin to logic high level to enable the device", 4 PGND (power) "Power ground", 5 SW (power) "Switch pin", 6 IN (power) "Input supply pin", 7 FREQ (in) "Frequency select pin. The power switch operates at 650 kHz if FREQ is connected to GND and at 1.2 MHz if FREQ is connected to IN", 8 SS (in) "Soft-start control pin. Connect a capacitor to this pin if soft-start needed. Open = no soft-start"

## TPS61085DGKT
designator U?
Boost Voltage Converter with 2.3 to 6 V Input and 2.8 to 18.5 V Output, -40 to 85 degC, 8-Pin VSSOP (DGK), Green (RoHS & no Sb/Br); Manufacturer: Texas Instruments; PartNumber: TPS61085DGKT; Regulated Outputs(#): 1; SubFamily: Step-Up Regulator; Switching Frequency(Typ)(kHz): 650, 1200; Vin(Max)(V): 6; Vin(Min)(V): 2.3; Vout(Max)(V): 18.5; Vout(Min)(V): 2.8; DatasheetVersion: SLVS859A; PackageVersion: revE, May-2006; PackageReference: DGK8; PackageDescription: 8-Pin Thin Small Outline Package 3 x 3 mm Body ,0.65 mm Pitch; Supplier 1: Digi-Key; Supplier Part Number 1: 296-23550-2-ND; Supplier 2: Digi-Key; Supplier Part Number 2: 296-23550-1-ND; Supplier 3: Digi-Key; Supplier Part Number 3: 296-23550-6-ND; Supplier 4: Farnell; Supplier Part Number 4: 1755641; Supplier 5: Newark; Supplier Part Number 5: 75T9693; Supplier 6: Mouser; Supplier Part Number 6: 595-TPS61085DGKT; Eco-Plan: Green (RoHS & no Sb/Br); Topology: Boost; Mounting Technology: Surface Mount; Code_JEDEC: MO-187-AA; ComponentLink1Description: Datasheet; ComponentLink1URL: http://www.ti.com/general/docs/lit/getliterature.tsp?genericPartNumber=TPS61085&fileType=pdf; ComponentLink2Description: Package Specification; ComponentLink2URL: http://www.ti.com/lit/ml/mpds028d/mpds028d.pdf
footprint DGK8_N (TSOP, 8-Leads, Body 3x3mm, Pitch 0.65mm, IPC Medium Density)
footprint DGK8_L (TSOP, 8-Leads, Body 3x3mm, Pitch 0.65mm, IPC High Density)
footprint DGK8_M (TSOP, 8-Leads, Body 3x3mm, Pitch 0.65mm, IPC Low Density)
pins: 1 COMP "Compensation pin", 2 FB (in) "Feedback pin", 3 EN (in) "Shutdown control input. Connect this pin to logic high level to enable the device", 4 PGND (power) "Power ground", 5 SW (power) "Switch pin", 6 IN (power) "Input supply pin", 7 FREQ (in) "Frequency select pin. The power switch operates at 650 kHz if FREQ is connected to GND and at 1.2 MHz if FREQ is connected to IN", 8 SS (in) "Soft-start control pin. Connect a capacitor to this pin if soft-start needed. Open = no soft-start"

## TPS61085DGKTG4
designator U?
Boost Voltage Converter with 2.3 to 6 V Input and 2.8 to 18.5 V Output, -40 to 85 degC, 8-Pin VSSOP (DGK), Green (RoHS & no Sb/Br); Manufacturer: Texas Instruments; PartNumber: TPS61085DGKTG4; Regulated Outputs(#): 1; SubFamily: Step-Up Regulator; Switching Frequency(Typ)(kHz): 650, 1200; Vin(Max)(V): 6; Vin(Min)(V): 2.3; Vout(Max)(V): 18.5; Vout(Min)(V): 2.8; DatasheetVersion: SLVS859A; PackageVersion: revE, May-2006; PackageReference: DGK8; PackageDescription: 8-Pin Thin Small Outline Package 3 x 3 mm Body ,0.65 mm Pitch; Supplier 1: Digi-Key; Supplier Part Number 1: TPS61085DGKTG4-ND; Supplier 2: Newark; Supplier Part Number 2: 03P5220; Supplier 3: Mouser; Supplier Part Number 3: 595-TPS61085DGKTG4; Eco-Plan: Green (RoHS & no Sb/Br); Topology: Boost; Mounting Technology: Surface Mount; Code_JEDEC: MO-187-AA; ComponentLink1Description: Datasheet; ComponentLink1URL: http://www.ti.com/general/docs/lit/getliterature.tsp?genericPartNumber=TPS61085&fileType=pdf; ComponentLink2Description: Package Specification; ComponentLink2URL: http://www.ti.com/lit/ml/mpds028d/mpds028d.pdf
footprint DGK8_N (TSOP, 8-Leads, Body 3x3mm, Pitch 0.65mm, IPC Medium Density)
footprint DGK8_L (TSOP, 8-Leads, Body 3x3mm, Pitch 0.65mm, IPC High Density)
footprint DGK8_M (TSOP, 8-Leads, Body 3x3mm, Pitch 0.65mm, IPC Low Density)
pins: 1 COMP "Compensation pin", 2 FB (in) "Feedback pin", 3 EN (in) "Shutdown control input. Connect this pin to logic high level to enable the device", 4 PGND (power) "Power ground", 5 SW (power) "Switch pin", 6 IN (power) "Input supply pin", 7 FREQ (in) "Frequency select pin. The power switch operates at 650 kHz if FREQ is connected to GND and at 1.2 MHz if FREQ is connected to IN", 8 SS (in) "Soft-start control pin. Connect a capacitor to this pin if soft-start needed. Open = no soft-start"

## TPS61085PW
designator U?
Boost Voltage Converter with 2.3 to 6 V Input and 2.8 to 18.5 V Output, -40 to 85 degC, 8-Pin TSSOP (PW), Green (RoHS & no Sb/Br); Manufacturer: Texas Instruments; PartNumber: TPS61085PW; Regulated Outputs(#): 1; SubFamily: Step-Up Regulator; Switching Frequency(Typ)(kHz): 650, 1200; Vin(Max)(V): 6; Vin(Min)(V): 2.3; Vout(Max)(V): 18.5; Vout(Min)(V): 2.8; DatasheetVersion: SLVS859A; PackageVersion: revG, Feb-2011; PackageReference: PW8; PackageDescription: 8-Pin Plastic Thin Small Outline Package 3 x 4.4 mm Body ,0.65 mm Pitch; Supplier 1: Digi-Key; Supplier Part Number 1: 296-27011-ND; Supplier 2: Farnell; Supplier Part Number 2: 1903399; Supplier 3: Newark; Supplier Part Number 3: 55T3962; Supplier 4: Mouser; Supplier Part Number 4: 595-TPS61085PW; Eco-Plan: Green (RoHS & no Sb/Br); Topology: Boost; Mounting Technology: Surface Mount; Code_JEDEC: MO-153; ComponentLink1Description: Datasheet; ComponentLink1URL: http://www.ti.com/general/docs/lit/getliterature.tsp?genericPartNumber=TPS61085&fileType=pdf; ComponentLink2Description: Package Specification; ComponentLink2URL: http://www.ti.com/litv/pdf/mtss001d
footprint PW8_N (TSOP, 8-Leads, Body 3x4.4mm, Pitch 0.65mm, IPC Medium Density)
footprint PW8_L (TSOP, 8-Leads, Body 3x4.4mm, Pitch 0.65mm, IPC High Density)
footprint PW8_M (TSOP, 8-Leads, Body 3x4.4mm, Pitch 0.65mm, IPC Low Density)
pins: 1 COMP "Compensation pin", 2 FB (in) "Feedback pin", 3 EN (in) "Shutdown control input. Connect this pin to logic high level to enable the device", 4 PGND (power) "Power ground", 5 SW (power) "Switch pin", 6 IN (power) "Input supply pin", 7 FREQ (in) "Frequency select pin. The power switch operates at 650 kHz if FREQ is connected to GND and at 1.2 MHz if FREQ is connected to IN", 8 SS (in) "Soft-start control pin. Connect a capacitor to this pin if soft-start needed. Open = no soft-start"

## TPS61085PWG4
designator U?
Boost Voltage Converter with 2.3 to 6 V Input and 2.8 to 18.5 V Output, -40 to 85 degC, 8-Pin TSSOP (PW), Green (RoHS & no Sb/Br); Manufacturer: Texas Instruments; PartNumber: TPS61085PWG4; Regulated Outputs(#): 1; SubFamily: Step-Up Regulator; Switching Frequency(Typ)(kHz): 650, 1200; Vin(Max)(V): 6; Vin(Min)(V): 2.3; Vout(Max)(V): 18.5; Vout(Min)(V): 2.8; DatasheetVersion: SLVS859A; PackageVersion: revG, Feb-2011; PackageReference: PW8; PackageDescription: 8-Pin Plastic Thin Small Outline Package 3 x 4.4 mm Body ,0.65 mm Pitch; Supplier 1: Digi-Key; Supplier Part Number 1: TPS61085PWG4-ND; Supplier 2: Mouser; Supplier Part Number 2: 595-TPS61085PWG4; Eco-Plan: Green (RoHS & no Sb/Br); Topology: Boost; Mounting Technology: Surface Mount; Code_JEDEC: MO-153; ComponentLink1Description: Datasheet; ComponentLink1URL: http://www.ti.com/general/docs/lit/getliterature.tsp?genericPartNumber=TPS61085&fileType=pdf; ComponentLink2Description: Package Specification; ComponentLink2URL: http://www.ti.com/litv/pdf/mtss001d
footprint PW8_N (TSOP, 8-Leads, Body 3x4.4mm, Pitch 0.65mm, IPC Medium Density)
footprint PW8_L (TSOP, 8-Leads, Body 3x4.4mm, Pitch 0.65mm, IPC High Density)
footprint PW8_M (TSOP, 8-Leads, Body 3x4.4mm, Pitch 0.65mm, IPC Low Density)
pins: 1 COMP "Compensation pin", 2 FB (in) "Feedback pin", 3 EN (in) "Shutdown control input. Connect this pin to logic high level to enable the device", 4 PGND (power) "Power ground", 5 SW (power) "Switch pin", 6 IN (power) "Input supply pin", 7 FREQ (in) "Frequency select pin. The power switch operates at 650 kHz if FREQ is connected to GND and at 1.2 MHz if FREQ is connected to IN", 8 SS (in) "Soft-start control pin. Connect a capacitor to this pin if soft-start needed. Open = no soft-start"

## TPS61085PWR
designator U?
Boost Voltage Converter with 2.3 to 6 V Input and 2.8 to 18.5 V Output, -40 to 85 degC, 8-Pin TSSOP (PW), Green (RoHS & no Sb/Br); Manufacturer: Texas Instruments; PartNumber: TPS61085PWR; Regulated Outputs(#): 1; SubFamily: Step-Up Regulator; Switching Frequency(Typ)(kHz): 650, 1200; Vin(Max)(V): 6; Vin(Min)(V): 2.3; Vout(Max)(V): 18.5; Vout(Min)(V): 2.8; DatasheetVersion: SLVS859A; PackageVersion: revG, Feb-2011; PackageReference: PW8; PackageDescription: 8-Pin Plastic Thin Small Outline Package 3 x 4.4 mm Body ,0.65 mm Pitch; Supplier 1: Digi-Key; Supplier Part Number 1: 296-23551-2-ND; Supplier 2: Digi-Key; Supplier Part Number 2: 296-23551-1-ND; Supplier 3: Digi-Key; Supplier Part Number 3: 296-23551-6-ND; Supplier 4: Newark; Supplier Part Number 4: 03P5223; Supplier 5: Mouser; Supplier Part Number 5: 595-TPS61085PWR; Eco-Plan: Green (RoHS & no Sb/Br); Topology: Boost; Mounting Technology: Surface Mount; Code_JEDEC: MO-153; ComponentLink1Description: Datasheet; ComponentLink1URL: http://www.ti.com/general/docs/lit/getliterature.tsp?genericPartNumber=TPS61085&fileType=pdf; ComponentLink2Description: Package Specification; ComponentLink2URL: http://www.ti.com/litv/pdf/mtss001d
footprint PW8_N (TSOP, 8-Leads, Body 3x4.4mm, Pitch 0.65mm, IPC Medium Density)
footprint PW8_L (TSOP, 8-Leads, Body 3x4.4mm, Pitch 0.65mm, IPC High Density)
footprint PW8_M (TSOP, 8-Leads, Body 3x4.4mm, Pitch 0.65mm, IPC Low Density)
pins: 1 COMP "Compensation pin", 2 FB (in) "Feedback pin", 3 EN (in) "Shutdown control input. Connect this pin to logic high level to enable the device", 4 PGND (power) "Power ground", 5 SW (power) "Switch pin", 6 IN (power) "Input supply pin", 7 FREQ (in) "Frequency select pin. The power switch operates at 650 kHz if FREQ is connected to GND and at 1.2 MHz if FREQ is connected to IN", 8 SS (in) "Soft-start control pin. Connect a capacitor to this pin if soft-start needed. Open = no soft-start"

## TPS61085PWRG4
designator U?
Boost Voltage Converter with 2.3 to 6 V Input and 2.8 to 18.5 V Output, -40 to 85 degC, 8-Pin TSSOP (PW), Green (RoHS & no Sb/Br); Manufacturer: Texas Instruments; PartNumber: TPS61085PWRG4; Regulated Outputs(#): 1; SubFamily: Step-Up Regulator; Switching Frequency(Typ)(kHz): 650, 1200; Vin(Max)(V): 6; Vin(Min)(V): 2.3; Vout(Max)(V): 18.5; Vout(Min)(V): 2.8; DatasheetVersion: SLVS859A; PackageVersion: revG, Feb-2011; PackageReference: PW8; PackageDescription: 8-Pin Plastic Thin Small Outline Package 3 x 4.4 mm Body ,0.65 mm Pitch; Supplier 1: Digi-Key; Supplier Part Number 1: TPS61085PWRG4-ND; Supplier 2: Mouser; Supplier Part Number 2: 595-TPS61085PWRG4; Eco-Plan: Green (RoHS & no Sb/Br); Topology: Boost; Mounting Technology: Surface Mount; Code_JEDEC: MO-153; ComponentLink1Description: Datasheet; ComponentLink1URL: http://www.ti.com/general/docs/lit/getliterature.tsp?genericPartNumber=TPS61085&fileType=pdf; ComponentLink2Description: Package Specification; ComponentLink2URL: http://www.ti.com/litv/pdf/mtss001d
footprint PW8_N (TSOP, 8-Leads, Body 3x4.4mm, Pitch 0.65mm, IPC Medium Density)
footprint PW8_L (TSOP, 8-Leads, Body 3x4.4mm, Pitch 0.65mm, IPC High Density)
footprint PW8_M (TSOP, 8-Leads, Body 3x4.4mm, Pitch 0.65mm, IPC Low Density)
pins: 1 COMP "Compensation pin", 2 FB (in) "Feedback pin", 3 EN (in) "Shutdown control input. Connect this pin to logic high level to enable the device", 4 PGND (power) "Power ground", 5 SW (power) "Switch pin", 6 IN (power) "Input supply pin", 7 FREQ (in) "Frequency select pin. The power switch operates at 650 kHz if FREQ is connected to GND and at 1.2 MHz if FREQ is connected to IN", 8 SS (in) "Soft-start control pin. Connect a capacitor to this pin if soft-start needed. Open = no soft-start"